# Altium schematic symbol library SRN8040-1R5Y.SchLib: 1 symbol
Pins are listed as number, name and electrical type; pins without a type are passive.

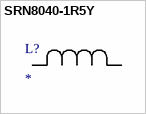
[diagram p0: symbol SRN8040-1R5Y]

## SRN8040-1R5Y
designator L?
No Description Available; Mfr_Name: Bourns Electronics
footprint IND_BOURNS_SRN8040
pins: 1, 2